# EAGLE library part FPC_06 (library dawidkulpa_con)
6 pins FPC connector
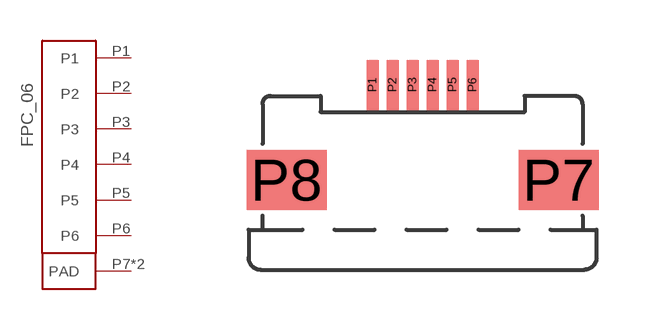
[diagram p6: symbol with the pads of FPC_06_05MM; footprint FPC_06_05MM]

Designator prefix -

## FPC_06  [FPC_06_05MM]
P1  P1
P2  P2
P3  P3
P4  P4
P5  P5
P6  P6
P7  PAD
P8  PAD

## Footprint FPC_06_05MM (pad centres in mm)
smd 0.3 x 1.25: P1 -1.25,1.625; P2 -0.75,1.625; P3 -0.25,1.625; P4 0.25,1.625; P5 0.75,1.625; P6 1.25,1.625
smd 2 x 1.5: P7 3.4,-0.75; P8 -3.4,-0.75